# EAGLE library part WF3.0-2X5 (library Insight Solutions-Connectors)
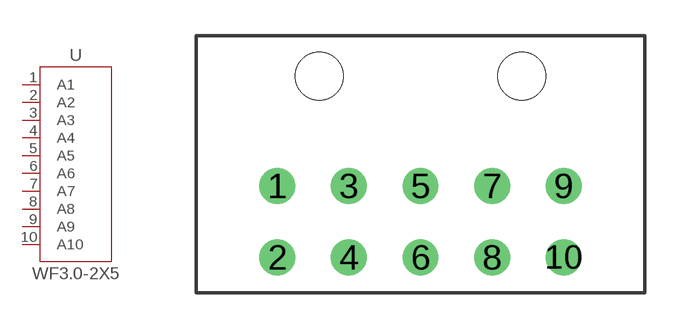
[diagram p2: symbol with the pads of WF3.0-2X5; footprint WF3.0-2X5]

Designator prefix U

## WF3.0-2X510PIN  [WF3.0-2X5]
1  A1  pas
2  A2  pas
3  A3  pas
4  A4  pas
5  A5  pas
6  A6  pas
7  A7  pas
8  A8  pas
9  A9  pas
10  A10  pas

## Footprint WF3.0-2X5 (pad centres in mm)
drill 1: 1 -6,1.5; 2 -6,-1.5; 3 -3,1.5; 4 -3,-1.5; 5 0,1.5; 6 0,-1.5; 7 3,1.5; 8 3,-1.5; 9 6,1.5; 10 6,-1.5
hole 2 at -4.25,6.1
hole 2 at 4.25,6.1